# EAGLE library part MINITEK.8-VIE-M-F (library PonLib)
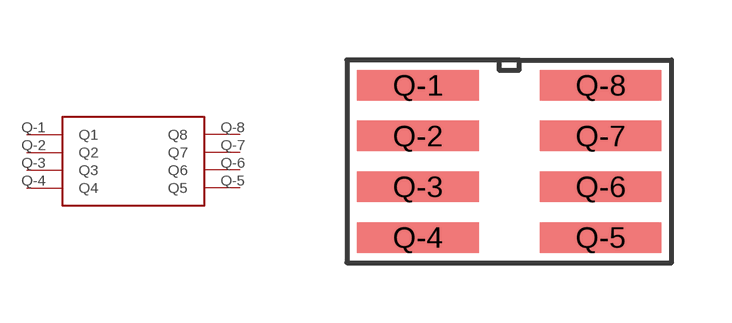
[diagram p1: symbol with the pads of MINITEK-8-VIE-MF; footprint MINITEK-8-VIE-MF]

Designator prefix -

## MINITEK.8-VIE-M-F  [MINITEK-8-VIE-MF]
Q-1  Q1
Q-2  Q2
Q-3  Q3
Q-4  Q4
Q-5  Q5
Q-6  Q6
Q-7  Q7
Q-8  Q8

## Footprint MINITEK-8-VIE-MF (pad centres in mm)
smd 3.048 x 0.762: Q-1 -2.286,1.905; Q-2 -2.286,0.635; Q-3 -2.286,-0.635; Q-4 -2.286,-1.905; Q-5 2.286,-1.905; Q-6 2.286,-0.635; Q-7 2.286,0.635; Q-8 2.286,1.905